# Altium footprint library Broadcom.PcbLib: 1 footprints
Each footprint in its own frame and in the unit in brackets; x right, y up, seen from the top. Pads: shape width x height; smd on the part's side, far side on the other; paste and mask are expansions set on the pad; w line width, h text height; cw(c..) or ccw(c..) is an arc to the next point about the centre after c.
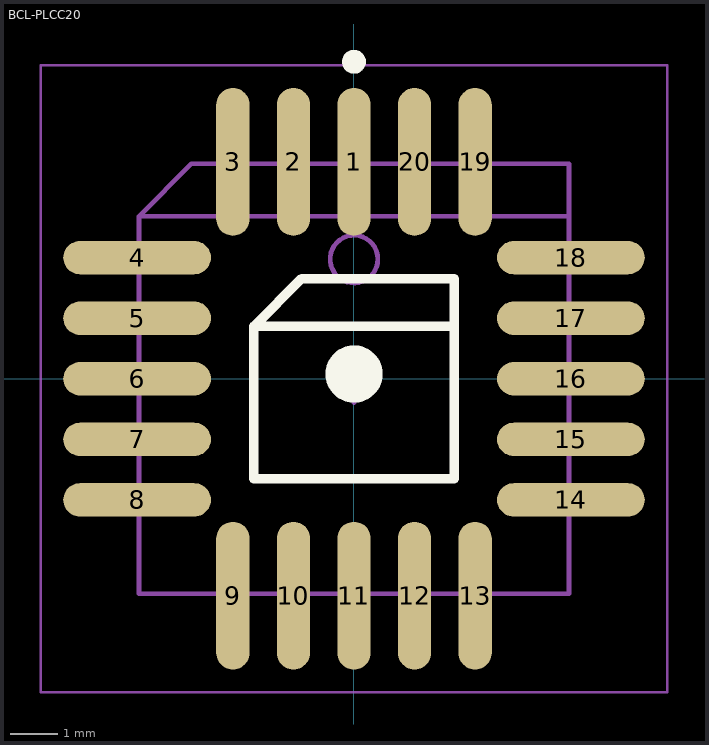
[diagram p0: the footprint, top view; thin cyan lines are the x and y axes]

## BCL-PLCC20 [mm] "Leaded Chip Carrier, 20-Leads, Body 9.91x9.91mm, Pitch 1.270mm, IPC Low Density"
height 4.58
pads (20):
  oval 0.7x3.1 smd: 1(0,4.55) 2(-1.27,4.55) 3(-2.54,4.55) 9(-2.54,-4.55) 10(-1.27,-4.55) 11(0,-4.55) 12(1.27,-4.55) 13(2.54,-4.55) 19(2.54,4.55) 20(1.27,4.55)
  oval 3.1x0.7 smd: 4(-4.55,2.54) 5(-4.55,1.27) 6(-4.55,0) 7(-4.55,-1.27) 8(-4.55,-2.54) 14(4.55,-2.54) 15(4.55,-1.27) 16(4.55,0) 17(4.55,1.27) 18(4.55,2.54)
Top Overlay:
  circle w0.6: c0,0.1 r0.3
  circle w0.25: c0,6.65 r0.125
  lines w0.2: 2.1,1.1 -2.1,1.1 ; -2.1,1.1 -2.1,-2.1 2.1,-2.1 2.1,2.1 -1.1,2.1 -2.1,1.1
Mechanical 13:
  circle w0.1: c0,2.51 r0.5
  lines w0.1: 4.51,3.41 -4.51,3.41 ; -4.51,3.41 -3.41,4.51 4.51,4.51 4.51,-4.51 -4.51,-4.51 -4.51,3.41
Mechanical 15:
  lines w0.05: -6.575,-6.575 6.575,-6.575 6.575,6.575 -6.575,6.575 -6.575,-6.575
  lines w0.1: -0.5,0 0.5,0 ; 0,-0.5 0,0.5
3D body "BCL-PLCC20.step": height 4.57, standoff 0, extent -5.153,-5.153 5.153,5.153